# Altium schematic symbol library IC.SchLib: 69 symbols
Pins are listed as number, name and electrical type; pins without a type are passive.

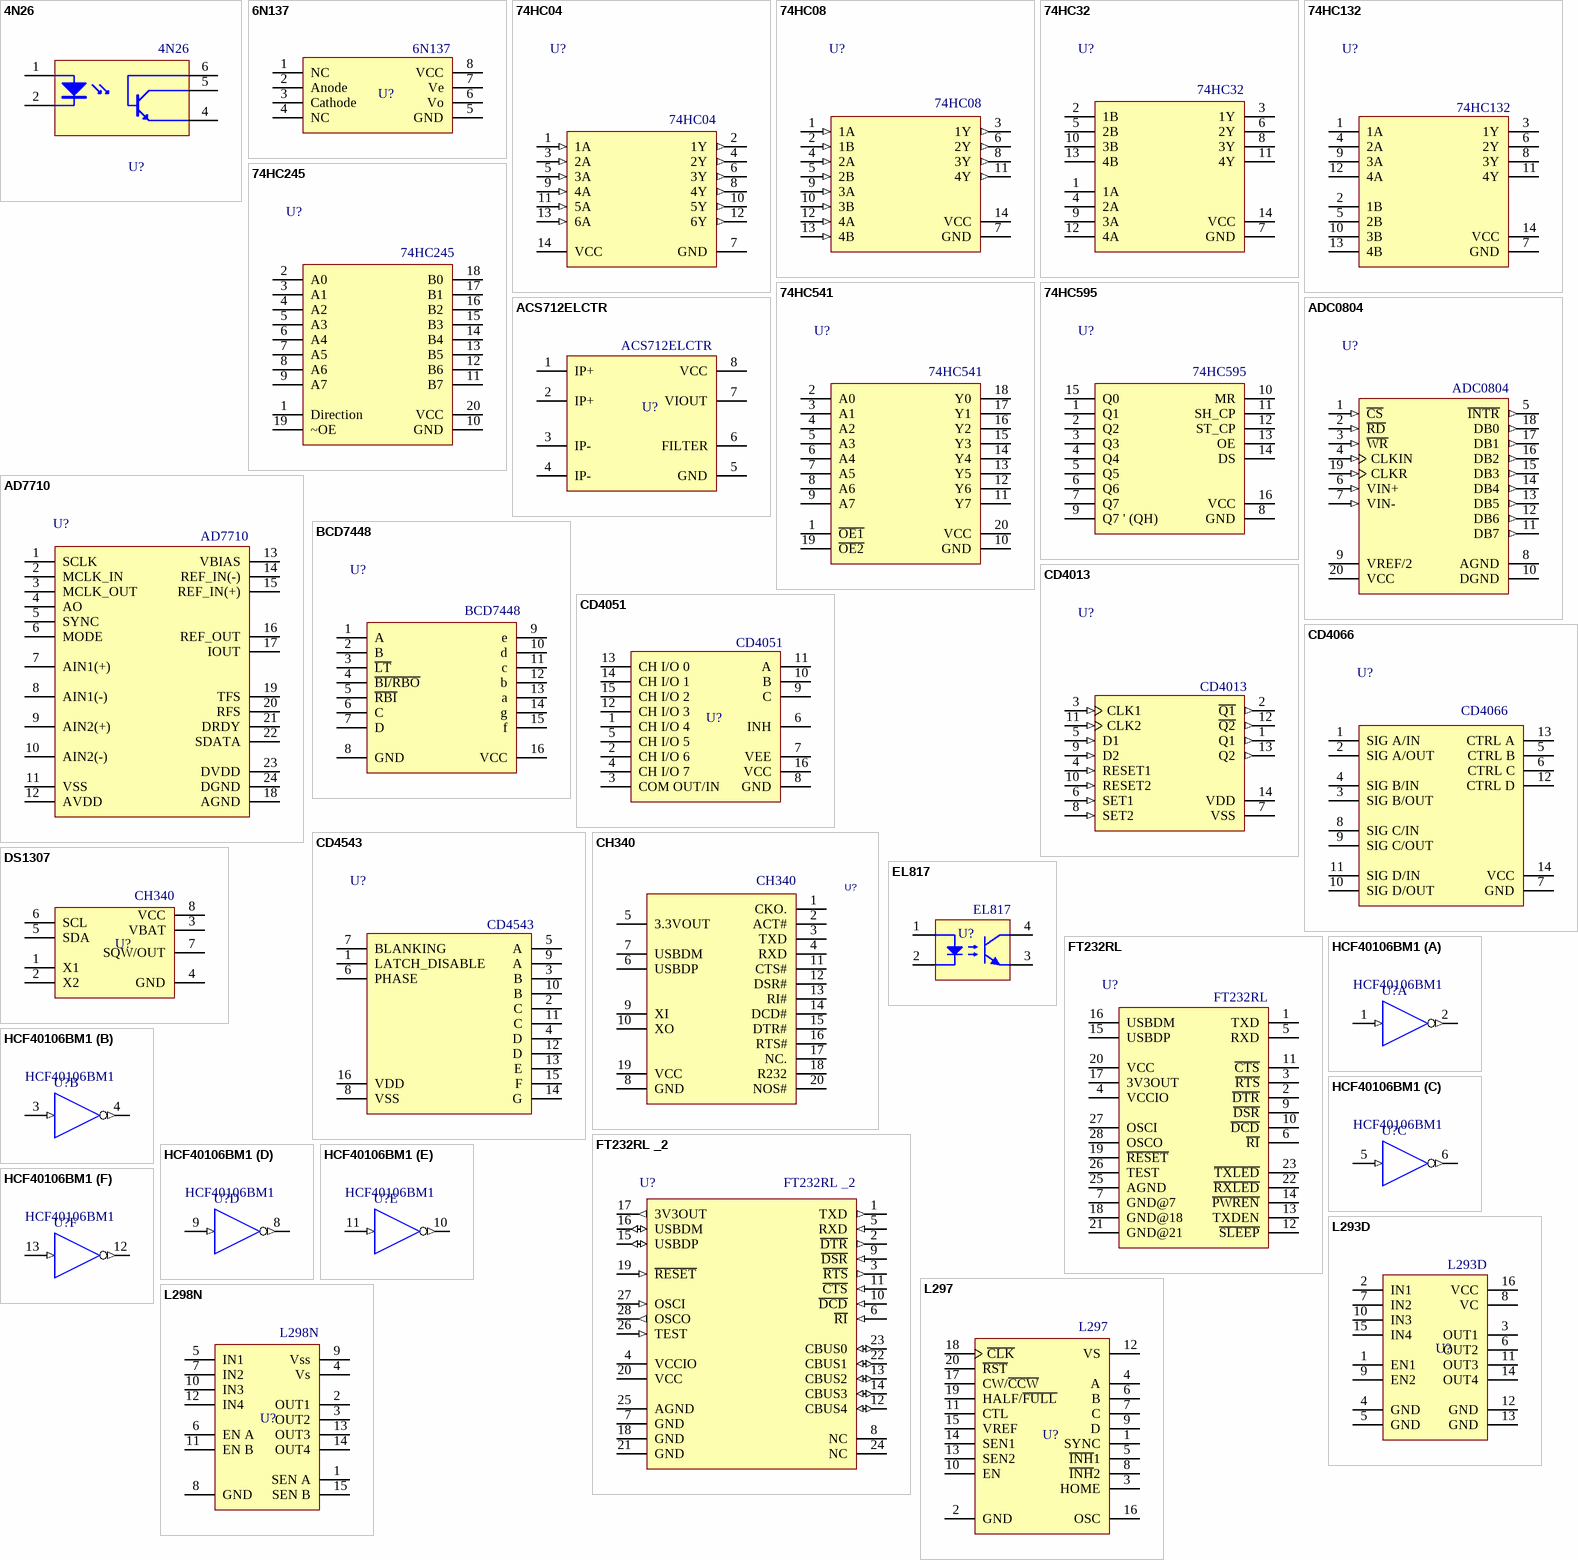
[diagram p0: symbols 4N26 to L298N]

## 4N26
designator U?  value 4N26
DatasheetVersion: 2022
footprint 4N26
pins: 1 A, 2 K, 4 E, 5 C, 6 B

## 6N137
designator U?  value 6N137
DatasheetVersion: 2022
footprint DIP8
footprint SOIC-8
pins: 1 NC, 2 Anode, 3 Cathode, 4 NC, 5 GND, 6 Vo, 7 Ve, 8 VCC

## 74HC04
designator U?  value 74HC04
DatasheetVersion: 2022
footprint DIP14
footprint SOIC14
pins: 1 1A (in), 2 1Y (out), 3 2A (in), 4 2Y (out), 5 3A (in), 6 3Y (out), 7 GND, 8 4Y (out), 9 4A (in), 10 5Y (out), 11 5A (in), 12 6Y (out), 13 6A (in), 14 VCC (power)

## 74HC08
designator U?  value 74HC08
DatasheetVersion: 2022
footprint DIP14
footprint SOIC14
pins: 1 1A (in), 2 1B (in), 3 1Y (out), 4 2A (in), 5 2B (in), 6 2Y (out), 7 GND, 8 3Y (out), 9 3A (in), 10 3B (in), 11 4Y (out), 12 4A (in), 13 4B (in), 14 VCC (power)

## 74HC32
designator U?  value 74HC32
DatasheetVersion: 2022
footprint DIP14
footprint SOIC14
pins: 1 1A, 2 1B, 3 1Y, 4 2A, 5 2B, 6 2Y, 7 GND, 8 3Y, 9 3A, 10 3B, 11 4Y, 12 4A, 13 4B, 14 VCC

## 74HC132
designator U?  value 74HC132
DatasheetVersion: 2022
footprint DIP14
footprint SOIC14
pins: 1 1A, 2 1B, 3 1Y, 4 2A, 5 2B, 6 2Y, 7 GND, 8 3Y, 9 3A, 10 3B, 11 4Y, 12 4A, 13 4B, 14 VCC

## 74HC245
designator U?  value 74HC245
DatasheetVersion: 2022
footprint DIP 20
footprint SOIC20
pins: 1 Direction (oc), 2 A0, 3 A1, 4 A2, 5 A3, 6 A4, 7 A5, 8 A6, 9 A7, 10 GND (power), 11 B7 (oc), 12 B6 (oc), 13 B5 (oc), 14 B4 (oc), 15 B3 (oc), 16 B2 (oc), 17 B1 (oc), 18 B0 (oc), 19 ~OE (oc), 20 VCC (power)

## 74HC541
designator U?  value 74HC541
DatasheetVersion: 2022
footprint DIP 20
footprint SOIC20
pins: 1 ~{OE1} (oc), 2 A0, 3 A1, 4 A2, 5 A3, 6 A4, 7 A5, 8 A6, 9 A7, 10 GND (power), 11 Y7 (oc), 12 Y6 (oc), 13 Y5 (oc), 14 Y4 (oc), 15 Y3 (oc), 16 Y2 (oc), 17 Y1 (oc), 18 Y0 (oc), 19 ~{OE2} (oc), 20 VCC (power)

## 74HC595
designator U?  value 74HC595
DatasheetVersion: 2022
footprint DIP16
footprint SOIC16
pins: 1 Q1 (oc), 2 Q2, 3 Q3, 4 Q4, 5 Q5, 6 Q6, 7 Q7, 8 GND (power), 9 Q7 ' (QH), 10 MR, 11 SH_CP (oc), 12 ST_CP (oc), 13 OE (oc), 14 DS (oc), 15 Q0 (oc), 16 VCC (power)

## ACS712ELCTR
designator U?  value ACS712ELCTR
DatasheetVersion: 2022
footprint SOIC-8
footprint DIP8
pins: 1 IP+, 2 IP+, 3 IP-, 4 IP-, 5 GND, 6 FILTER, 7 VIOUT, 8 VCC

## AD7710
designator U?  value AD7710
DatasheetVersion: 2022
footprint DIP24
pins: 1 SCLK, 2 MCLK_IN, 3 MCLK_OUT, 4 AO, 5 SYNC, 6 MODE, 7 AIN1(+), 8 AIN1(-), 9 AIN2(+), 10 AIN2(-), 11 VSS, 12 AVDD, 13 VBIAS, 14 REF_IN(-), 15 REF_IN(+), 16 REF_OUT, 17 IOUT, 18 AGND, 19 TFS, 20 RFS, 21 DRDY, 22 SDATA, 23 DVDD, 24 DGND

## ADC0804
designator U?  value ADC0804
DatasheetVersion: 2022
footprint DIP 20
footprint SOIC20
pins: 1 ~{CS} (in), 2 ~{RD} (in), 3 ~{WR} (in), 4 CLKIN (in), 5 ~{INTR} (out), 6 VIN+ (in), 7 VIN- (in), 8 AGND (power), 9 VREF/2 (power), 10 DGND (power), 11 DB7 (out), 12 DB6 (out), 13 DB5 (out), 14 DB4 (out), 15 DB3 (out), 16 DB2 (out), 17 DB1 (out), 18 DB0 (out), 19 CLKR (in), 20 VCC (power)

## BCD7448
designator U?  value BCD7448
DatasheetVersion: 2022
footprint DIP16
footprint SOIC16
pins: 1 A (oc), 2 B, 3 ~{LT}, 4 ~{BI/RBO}, 5 ~{RBI}, 6 C, 7 D, 8 GND (power), 9 e, 10 d, 11 c, 12 b, 13 a, 14 g, 15 f (oc), 16 VCC (power)

## CD4013
designator U?  value CD4013
DatasheetVersion: 2022
footprint DIP14
footprint SOIC14
pins: 1 Q1 (out), 2 ~{Q1} (out), 3 CLK1 (in), 4 RESET1 (in), 5 D1 (in), 6 SET1 (in), 7 VSS (power), 8 SET2 (in), 9 D2 (in), 10 RESET2 (in), 11 CLK2 (in), 12 ~{Q2} (out), 13 Q2 (out), 14 VDD (power)

## CD4051
designator U?  value CD4051
DatasheetVersion: 2022
footprint SOIC16
footprint DIP 16 (DIP; 16 Leads; Row Spacing 7.62 mm; Pitch 2.54 mm)
pins: 1 CH I/O 4, 2 CH I/O 6, 3 COM OUT/IN, 4 CH I/O 7, 5 CH I/O 5, 6 INH, 7 VEE, 8 GND (power), 9 C (power), 10 B, 11 A, 12 CH I/O 3, 13 CH I/O 0, 14 CH I/O 1, 15 CH I/O 2, 16 VCC

## CD4066
designator U?  value CD4066
DatasheetVersion: 2022
footprint DIP14
footprint SOIC14
pins: 1 SIG A/IN, 2 SIG A/OUT, 3 SIG B/OUT, 4 SIG B/IN, 5 CTRL B, 6 CTRL C, 7 GND, 8 SIG C/IN, 9 SIG C/OUT, 10 SIG D/OUT, 11 SIG D/IN, 12 CTRL D, 13 CTRL A, 14 VCC

## CD4543
designator U?  value CD4543
DatasheetVersion: 2022
footprint SOIC16
pins: 1 LATCH_DISABLE, 2 C, 3 B, 4 D, 5 A, 6 PHASE, 7 BLANKING, 8 VSS, 9 A, 10 B, 11 C, 12 D, 13 E, 14 G, 15 F, 16 VDD

## CH340
designator U?  value CH340
DatasheetVersion: 2022
footprint SOG65 700X530
pins: 1 CKO., 2 ACT#, 3 TXD, 4 RXD, 5 3.3VOUT, 6 USBDP, 7 USBDM, 8 GND, 9 XI, 10 XO, 11 CTS#, 12 DSR#, 13 RI#, 14 DCD#, 15 DTR#, 16 RTS#, 17 NC., 18 R232, 19 VCC, 20 NOS#

## DS1307
designator U?  value CH340
ComponentLinkp-URL: https://www.smartw.ir/; DatasheetVersion: 2022
footprint SOIC8N_N (SOIC, 8-Leads, Body 4.9x3.9mm, Pitch 1.27mm, IPC Medium Density)
pins: 1 X1, 2 X2, 3 VBAT, 4 GND, 5 SDA, 6 SCL, 7 SQW/OUT, 8 VCC

## EL817
designator U?  value EL817
ComponentLinkp-URL: https://www.smartw.ir/; DatasheetVersion: 2022
footprint DIP 4
pins: 1 A, 2 K, 3 E, 4 C

## FT232RL
designator U?  value FT232RL
DatasheetVersion: 2022
footprint SSOP28
pins: 1 TXD, 2 ~{DTR}, 3 ~{RTS}, 4 VCCIO, 5 RXD, 6 ~{RI}, 7 GND@7, 9 ~{DSR}, 10 ~{DCD}, 11 ~{CTS}, 12 ~{SLEEP}, 13 TXDEN, 14 ~{PWREN}, 15 USBDP, 16 USBDM, 17 3V3OUT, 18 GND@18, 19 ~{RESET}, 20 VCC, 21 GND@21, 22 ~{RXLED}, 23 ~{TXLED}, 25 AGND, 26 TEST, 27 OSCI, 28 OSCO

## FT232RL _2
designator U?  value FT232RL _2
DatasheetVersion: 2022
footprint SSOP28
pins: 1 TXD (out), 2 ~{DTR} (out), 3 ~{RTS} (out), 4 VCCIO (power), 5 RXD (in), 6 ~{RI} (in), 7 GND (power), 8 NC, 9 ~{DSR} (in), 10 ~{DCD} (in), 11 ~{CTS} (in), 12 CBUS4 (io), 13 CBUS2 (io), 14 CBUS3 (io), 15 USBDP (io), 16 USBDM (io), 17 3V3OUT (out), 18 GND (power), 19 ~{RESET} (in), 20 VCC (power), 21 GND (power), 22 CBUS1 (io), 23 CBUS0 (io), 24 NC, 25 AGND (power), 26 TEST (in), 27 OSCI (in), 28 OSCO (out)

## HCF40106BM1
designator U?  value HCF40106BM1
DatasheetVersion: 2022
footprint SOIC14
footprint DIP14
pins on every part: 7 GND (power) hidden to GND, 14 VCC (power) hidden to VCC
part A pins: 1 A (in), 2 G (out)
part B pins: 3 B (in), 4 H (out)
part C pins: 5 C (in), 6 I (out)
part D pins: 8 J (out), 9 D (in)
part E pins: 10 K (out), 11 E (in)
part F pins: 12 L (out), 13 F (in)

## L293D
designator U?  value L293D
ComponentLinkp-URL: https://www.smartw.ir/; DatasheetVersion: 2022
footprint DIP 16 (DIP; 16 Leads; Row Spacing 7.62 mm; Pitch 2.54 mm)
pins: 1 EN1, 2 IN1, 3 OUT1, 4 GND, 5 GND, 6 OUT2, 7 IN2, 8 VC, 9 EN2, 10 IN3, 11 OUT3, 12 GND, 13 GND, 14 OUT4, 15 IN4, 16 VCC

## L297
designator U?  value L297
DatasheetVersion: 2022; ComponentLinkp-URL: https://www.smartw.ir/
footprint DIP 20
pins: 1 SYNC, 2 GND, 3 HOME, 4 A, 5 ~{INH}1, 6 B, 7 C, 8 ~{INH}2, 9 D, 10 EN, 11 CTL, 12 VS, 13 SEN2, 14 SEN1, 15 VREF, 16 OSC, 17 CW/~{CCW}, 18 ~{CLK}, 19 HALF/~{FULL}, 20 ~{RST}

## L298N
designator U?  value L298N
ComponentLinkp-URL: https://www.smartw.ir/; DatasheetVersion: 2022
footprint L298N
pins: 1 SEN A, 2 OUT1, 3 OUT2, 4 Vs, 5 IN1, 6 EN A, 7 IN2, 8 GND, 9 Vss, 10 IN3, 11 EN B, 12 IN4, 13 OUT3, 14 OUT4, 15 SEN B

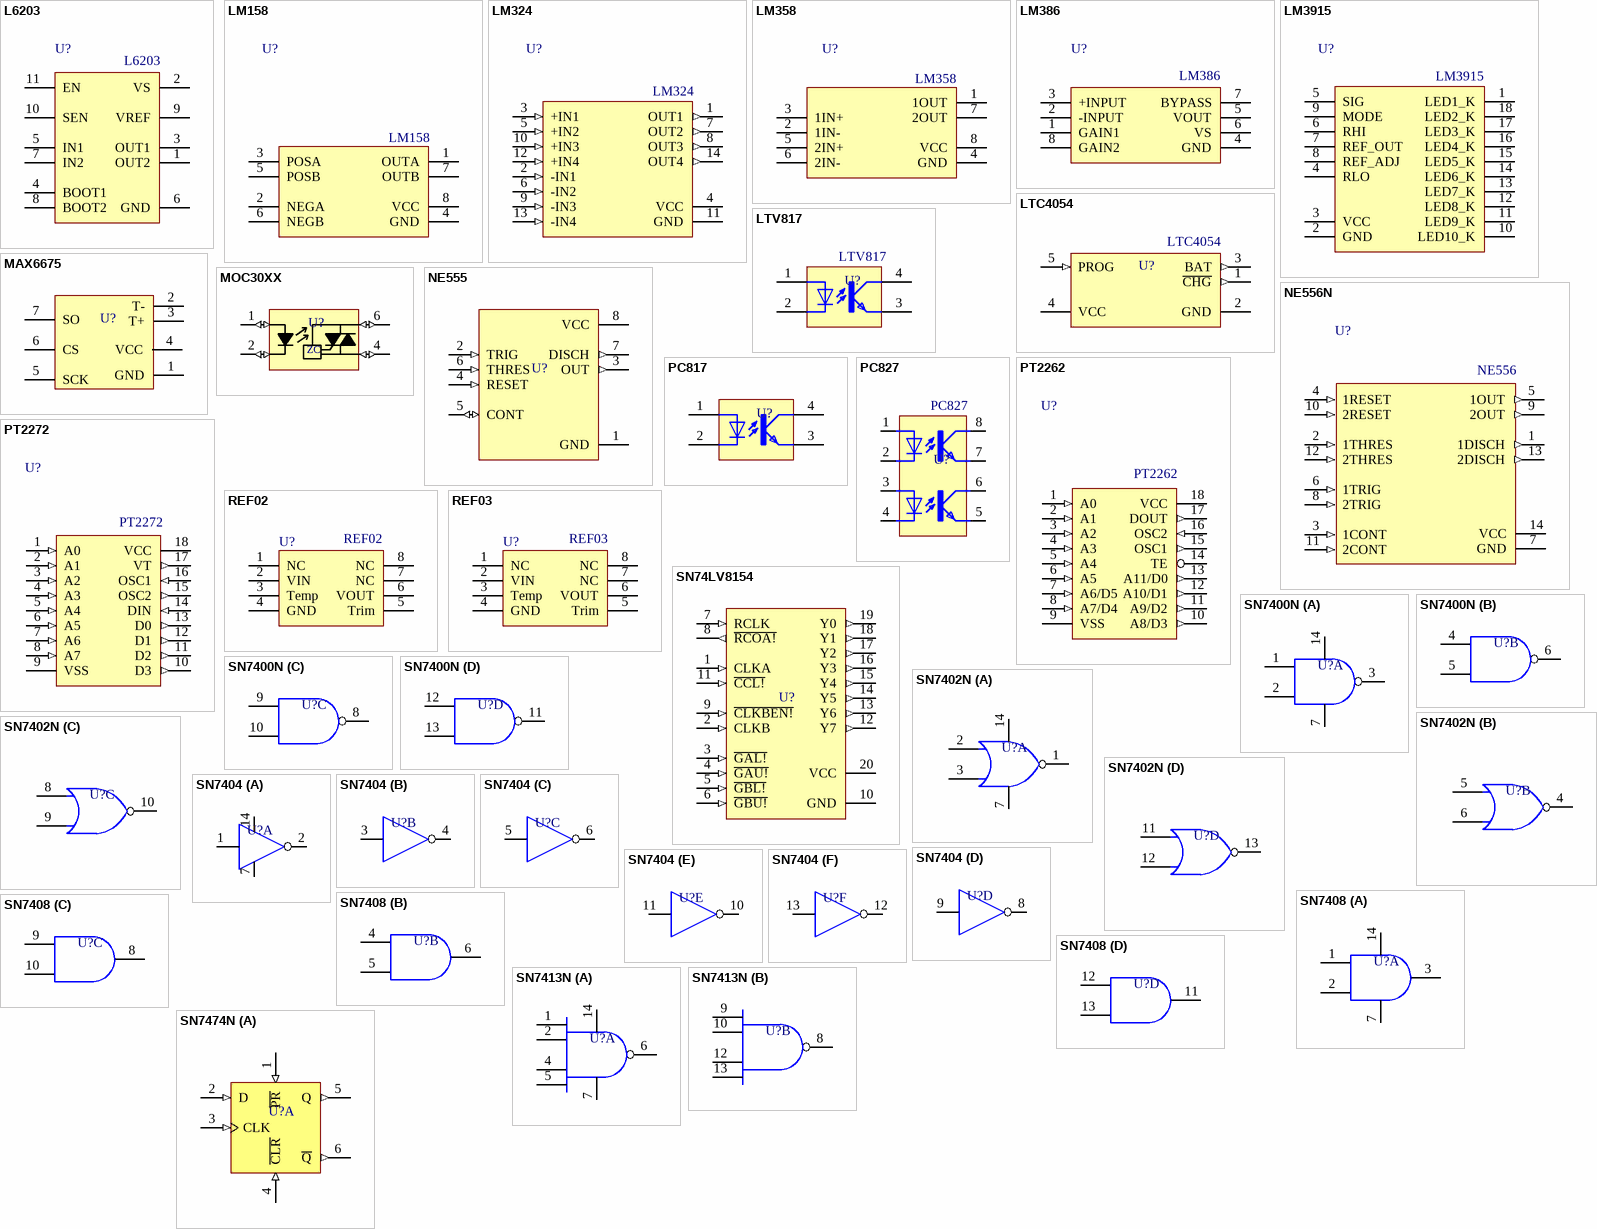
[diagram p1: symbols L6203 to SN7474N]

## L6203
designator U?  value L6203
DatasheetVersion: 2022; ComponentLinkp-URL: https://www.smartw.ir/
footprint L6203
pins: 1 OUT2, 2 VS, 3 OUT1, 4 BOOT1, 5 IN1, 6 GND, 7 IN2, 8 BOOT2, 9 VREF, 10 SEN, 11 EN

## LM158
designator U?  value LM158
DatasheetVersion: 2022
footprint DIP8
footprint SOIC-8
pins: 1 OUTA, 2 NEGA, 3 POSA, 4 GND, 5 POSB, 6 NEGB, 7 OUTB, 8 VCC

## LM324
designator U?  value LM324
DatasheetVersion: 2022
footprint DIP14
footprint SOIC14
pins: 1 OUT1 (out), 2 -IN1 (in), 3 +IN1 (in), 4 VCC (power), 5 +IN2 (in), 6 -IN2 (in), 7 OUT2 (out), 8 OUT3 (out), 9 -IN3 (in), 10 +IN3 (in), 11 GND (power), 12 +IN4 (in), 13 -IN4 (in), 14 OUT4 (out)

## LM358
designator U?  value LM358
DatasheetVersion: 2022
footprint DIP8
footprint SOIC-8
pins: 1 1OUT, 2 1IN-, 3 1IN+, 4 GND, 5 2IN+, 6 2IN-, 7 2OUT, 8 VCC

## LM386
designator U?  value LM386
DatasheetVersion: 2022
footprint DIP8
footprint SOIC-8
pins: 1 GAIN1, 2 -INPUT, 3 +INPUT, 4 GND, 5 VOUT, 6 VS, 7 BYPASS, 8 GAIN2

## LM3915
designator U?  value LM3915
DatasheetVersion: 2022
footprint DIP18
pins: 1 LED1_K, 2 GND, 3 VCC, 4 RLO, 5 SIG, 6 RHI, 7 REF_OUT, 8 REF_ADJ, 9 MODE, 10 LED10_K, 11 LED9_K, 12 LED8_K, 13 LED7_K, 14 LED6_K, 15 LED5_K, 16 LED4_K, 17 LED3_K, 18 LED2_K

## LTC4054
designator U?  value LTC4054
DatasheetVersion: 2022
footprint TSOT-23-5
pins: 1 ~{CHG} (out), 2 GND, 3 BAT (out), 4 VCC (power), 5 PROG (in)

## LTV817
designator U?  value LTV817
DatasheetVersion: 2022
footprint PC817 SMD
footprint PC817 DIP
pins: 1 "A", 2, 3, 4

## MAX6675
designator U?
DatasheetVersion: 2022
footprint SOIC-8
pins: 1 GND, 2 T-, 3 T+, 4 VCC, 5 SCK, 6 CS, 7 SO

## MOC30XX
designator U?
DatasheetVersion: 2022
footprint DIP-6 white
pins: 1 A (io), 2 K (io), 4 T2 (io), 6 T1 (io)
text: ZC

## NE555
designator U?
ComponentLinkp-URL: https://www.smartw.ir/; DatasheetVersion: 2022
footprint NE555 N
footprint NE555 SMD
pins: 1 GND (power), 2 TRIG (in), 3 OUT (out), 4 RESET (in), 5 CONT (io), 6 THRES (in), 7 DISCH (out), 8 VCC (power)

## NE556N
designator U?  value NE556
DatasheetVersion: 2022
footprint NE556 N
pins: 1 1DISCH (out), 2 1THRES (in), 3 1CONT (in), 4 1RESET (in), 5 1OUT (out), 6 1TRIG (in), 7 GND, 8 2TRIG (in), 9 2OUT (out), 10 2RESET (in), 11 2CONT (in), 12 2THRES (in), 13 2DISCH (out), 14 VCC (power)

## PC817
designator U?
DatasheetVersion: 2022
footprint PC817 SMD
footprint PC817 DIP
pins: 1 "A", 2, 3, 4

## PC827
designator U?  value PC827
DatasheetVersion: 2022
footprint DIP8
pins: 1 A, 2 C, 3 A, 4 C, 5 EMIT, 6 COL, 7 EMIT, 8 COL

## PT2262
designator U?  value PT2262
DatasheetVersion: 2022
footprint DIP18
pins: 1 A0 (in), 2 A1 (in), 3 A2 (in), 4 A3 (in), 5 A4 (in), 6 A5 (in), 7 A6/D5 (in), 8 A7/D4 (in), 9 VSS (power), 10 A8/D3 (out), 11 A9/D2 (out), 12 A10/D1 (out), 13 A11/D0 (out), 14 TE, 15 OSC1 (out), 16 OSC2 (in), 17 DOUT (out), 18 VCC (power)

## PT2272
designator U?  value PT2272
DatasheetVersion: 2022
footprint DIP18
pins: 1 A0 (in), 2 A1 (in), 3 A2 (in), 4 A3 (in), 5 A4 (in), 6 A5 (in), 7 A6 (in), 8 A7 (in), 9 VSS (power), 10 D3 (out), 11 D2 (out), 12 D1 (out), 13 D0 (out), 14 DIN (in), 15 OSC2 (out), 16 OSC1 (in), 17 VT (out), 18 VCC (power)

## REF02
designator U?  value REF02
DatasheetVersion: 2022
footprint DIP8
footprint SOIC-8
pins: 1 NC, 2 VIN, 3 Temp, 4 GND, 5 Trim, 6 VOUT, 7 NC, 8 NC

## REF03
designator U?  value REF03
DatasheetVersion: 2022
footprint DIP8
footprint SOIC-8
pins: 1 NC, 2 VIN, 3 Temp, 4 GND, 5 Trim, 6 VOUT, 7 NC, 8 NC

## SN74LV8154
designator U?
DatasheetVersion: 2022
footprint TSSOP20
pins: 1 CLKA (in), 2 CLKB (in), 3 ~{GAL!} (in), 4 ~{GAU!} (in), 5 ~{GBL!} (in), 6 ~{GBU!} (in), 7 RCLK (in), 8 ~{RCOA!} (out), 9 ~{CLKBEN!} (in), 10 GND (power), 11 ~{CC}L~{!} (in), 12 Y7 (out), 13 Y6 (out), 14 Y5 (out), 15 Y4 (out), 16 Y3 (out), 17 Y2 (out), 18 Y1 (out), 19 Y0 (out), 20 VCC (power)

## SN7400N
designator U?
DatasheetVersion: 2022
footprint DIP14
part A pins: 1, 2, 3, 7 GND (power), 14 VCC (power)
part B pins: 4, 5, 6
part C pins: 8, 9, 10
part D pins: 11, 12, 13

## SN7402N
designator U?
DatasheetVersion: 2022
footprint DIP14
part A pins: 1, 2, 3, 7 GND, 14 VCC
part B pins: 4, 5, 6
part C pins: 8, 9, 10
part D pins: 11, 12, 13

## SN7404
designator U?
DatasheetVersion: 2022
footprint dip14
part A pins: 1, 2, 7 GND (power), 14 VCC (power)
part B pins: 3, 4
part C pins: 5, 6
part D pins: 8, 9
part E pins: 10, 11
part F pins: 12, 13

## SN7408
designator U?
DatasheetVersion: 2022
footprint dip14
part A pins: 1, 2, 3, 7 GND (power), 14 VCC (power)
part B pins: 4, 5, 6
part C pins: 8, 9, 10
part D pins: 11, 12, 13

## SN7413N
designator U?
DatasheetVersion: 2022
footprint DIP14
part A pins: 1, 2, 4, 5, 6, 7 GND, 14 VCC
part B pins: 8, 9, 10, 12, 13

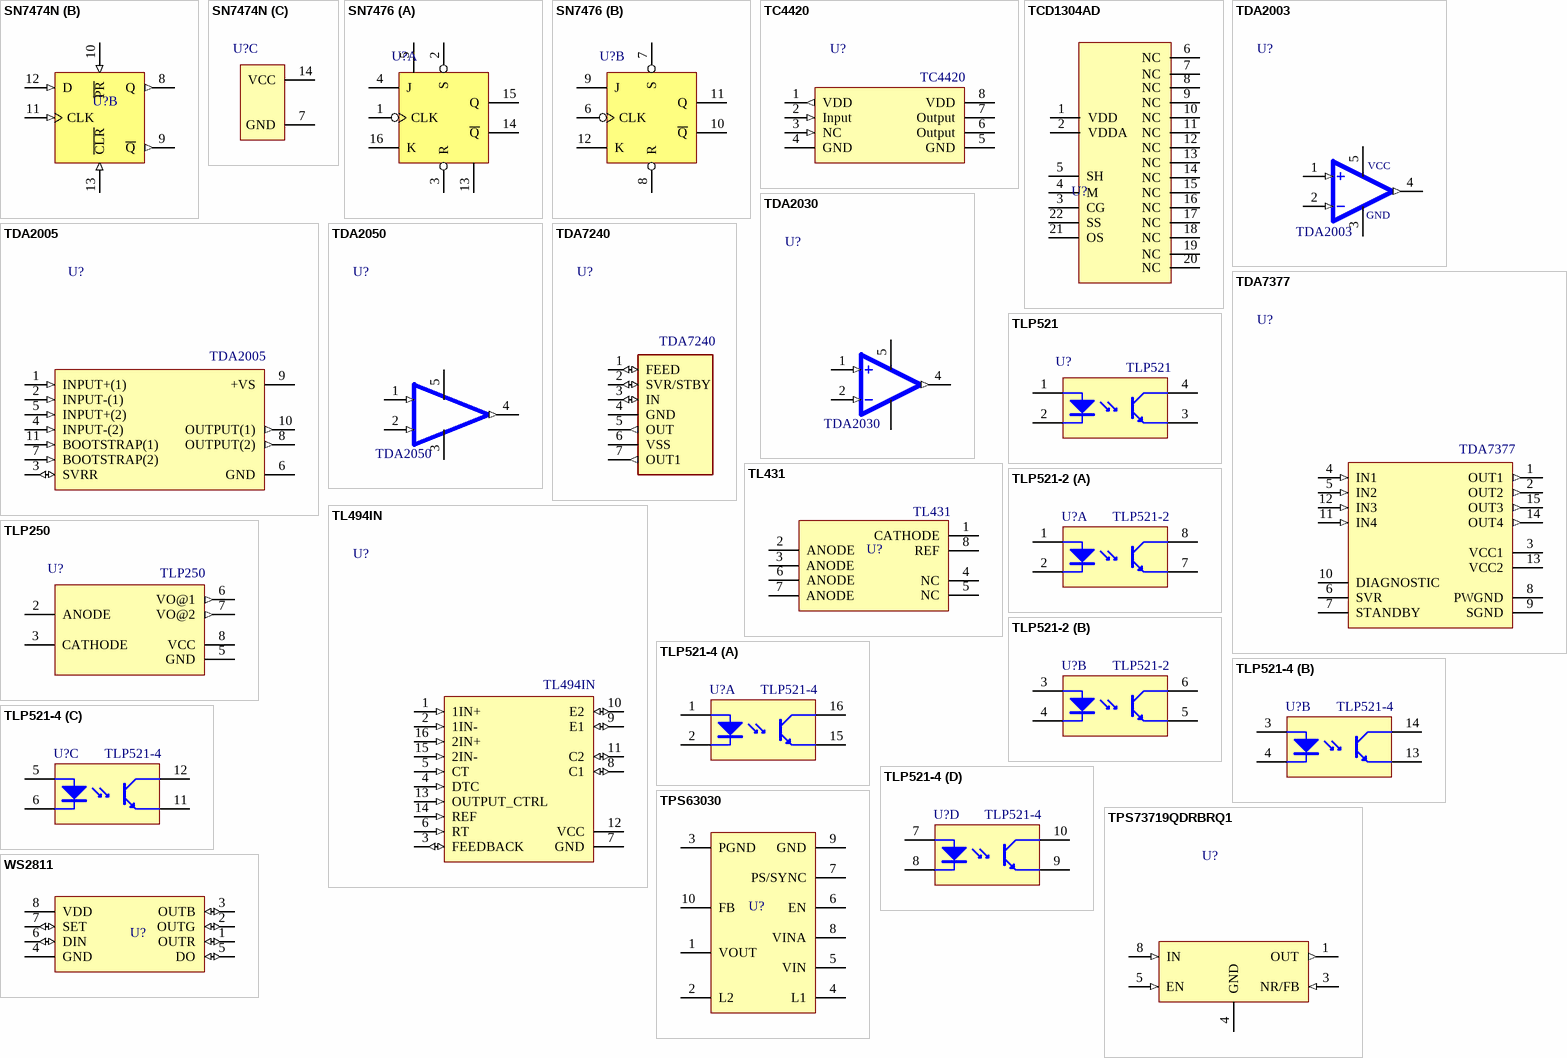
[diagram p2: symbols SN7474N to WS2811]

## SN7474N
designator U?
DatasheetVersion: 2022
footprint dip14
part A pins: 1 ~{PR} (in), 2 D (in), 3 CLK (in), 4 ~{CLR} (in), 5 Q (out), 6 ~{Q} (out)
part B pins: 8 Q (out), 9 ~{Q} (out), 10 ~{PR} (in), 11 CLK (in), 12 D (in), 13 ~{CLR} (in)
part C pins: 7 GND (power), 14 VCC (power)

## SN7476
designator U?
DatasheetVersion: 2022
footprint Dip16
part A pins: 1 CLK, 2 S, 3 R, 4 J, 5 VCC (power), 13 GND (power), 14 ~{Q}, 15 Q, 16 K
part B pins: 6 CLK, 7 S, 8 R, 9 J, 10 ~{Q}, 11 Q, 12 K

## TC4420
designator U?  value TC4420
DatasheetVersion: 2022
footprint DIP8
footprint SOIC-8
pins: 1 VDD (out), 2 Input (in), 3 NC (in), 4 GND (power), 5 GND, 6 Output, 7 Output, 8 VDD

## TCD1304AD
designator U?
DatasheetVersion: 2022
footprint TCD1304 (TOSHIBA CCR)
pins: 1 VDD, 2 VDDA, 3 CG, 4 M, 5 SH, 6 NC, 7 NC, 8 NC, 9 NC, 10 NC, 11 NC, 12 NC, 13 NC, 14 NC, 15 NC, 16 NC, 17 NC, 18 NC, 19 NC, 20 NC, 21 OS, 22 SS

## TDA2003
designator U?  value TDA2003
DatasheetVersion: 2022
footprint TO2205
footprint TO2205 Right
pins: 1 +IN (in), 2 -IN (in), 3 GND (power), 4 OUT (out), 5 VCC (power)

## TDA2005
designator U?  value TDA2005
DatasheetVersion: 2022
footprint NE556 N
pins: 1 INPUT+(1) (in), 2 INPUT-(1) (in), 3 SVRR (io), 4 INPUT-(2) (in), 5 INPUT+(2) (in), 6 GND (power), 7 BOOTSTRAP(2) (in), 8 OUTPUT(2) (out), 9 +VS (power), 10 OUTPUT(1) (out), 11 BOOTSTRAP(1) (in)

## TDA2030
designator U?  value TDA2030
DatasheetVersion: 2022
footprint TO2205
footprint TO2205 Right
pins: 1 NON_INV_INPUT (in), 2 INV_INPUT (in), 3 -VS (power), 3 -VS (power), 3 -VS (power), 4 OUTPUT (out), 5 +VS (power)

## TDA2050
designator U?  value TDA2050
DatasheetVersion: 2022
footprint TO2205
footprint TO2205 Right
pins: 1 NONINVERTING (in), 2 INVERTING (in), 3 GND (power), 4 OUTPUT (out), 5 SUPPLY_VOLTAGE (power)

## TDA7240
designator U?  value TDA7240
DatasheetVersion: 2022
footprint SIP 7
footprint SIP 7 Right
pins: 1 FEED (io), 2 SVR/STBY (io), 3 IN (io), 4 GND (power), 5 OUT (out), 6 VSS (power), 7 OUT1 (out)

## TDA7377
designator U?  value TDA7377
DatasheetVersion: 2022
footprint SIP15
pins: 1 OUT1 (out), 2 OUT2 (out), 3 VCC1 (power), 4 IN1 (in), 5 IN2 (in), 6 SVR, 7 STANDBY, 8 PWGND, 9 SGND, 10 DIAGNOSTIC, 11 IN4 (in), 12 IN3 (in), 13 VCC2 (power), 14 OUT4 (out), 15 OUT3 (out)

## TL431
designator U?  value TL431
DatasheetVersion: 2022
footprint TPL250
pins: 1 CATHODE, 2 ANODE, 3 ANODE, 4 NC, 5 NC (power), 6 ANODE, 7 ANODE, 8 REF (power)

## TL494IN
designator U?  value TL494IN
DatasheetVersion: 2022
footprint DIP 16 (DIP; 16 Leads; Row Spacing 7.62 mm; Pitch 2.54 mm)
footprint SOIC16
pins: 1 1IN+ (in), 2 1IN- (in), 3 FEEDBACK (io), 4 DTC (in), 5 CT (in), 6 RT (in), 7 GND (power), 8 C1 (io), 9 E1 (io), 10 E2 (io), 11 C2 (io), 12 VCC (power), 13 OUTPUT_CTRL (in), 14 REF (in), 15 2IN- (in), 16 2IN+ (in)

## TLP250
designator U?  value TLP250
DatasheetVersion: 2022
footprint TPL250
pins: 2 ANODE, 3 CATHODE, 5 GND (power), 6 VO@1 (out), 7 VO@2 (out), 8 VCC (power)

## TLP521
designator U?  value TLP521
DatasheetVersion: 2022
footprint PC817 SMD
footprint PC817 DIP
pins: 1 "A", 2, 3, 4

## TLP521-2
designator U?  value TLP521-2
DatasheetVersion: 2022
footprint DIP8
part A pins: 1 A, 2 K, 7 E, 8 C
part B pins: 3 A, 4 K, 5 E, 6 C

## TLP521-4
designator U?  value TLP521-4
DatasheetVersion: 2022; ComponentLink2Description: New link
footprint DIP16
part A pins: 1 A, 2 K, 15 E, 16 C
part B pins: 3 A, 4 K, 13 E, 14 C
part C pins: 5 A, 6 K, 11 E, 12 C
part D pins: 7 A, 8 K, 9 E, 10 C

## TPS63030
designator U?
DatasheetVersion: 2022
footprint DSK-10
pins: 1 VOUT, 2 L2, 3 PGND, 4 L1, 5 VIN, 6 EN, 7 PS/SYNC, 8 VINA, 9 GND, 10 FB

## TPS73719QDRBRQ1
designator U?
DatasheetVersion: 2022
footprint SON65P300X300X100-9N
pins: 1 OUT (out), 3 NR/FB (in), 4 GND, 5 EN (in), 8 IN (in)

## WS2811
designator U?
DatasheetVersion: 2022
footprint DIP8
footprint SOIC-8
pins: 1 OUTR (io), 2 OUTG (io), 3 OUTB (io), 4 GND (power), 5 DO (io), 6 DIN (io), 7 SET (io), 8 VDD (power)